# Altium integrated library 74ac-logic.IntLib: 136 symbols (part 2 of 2)
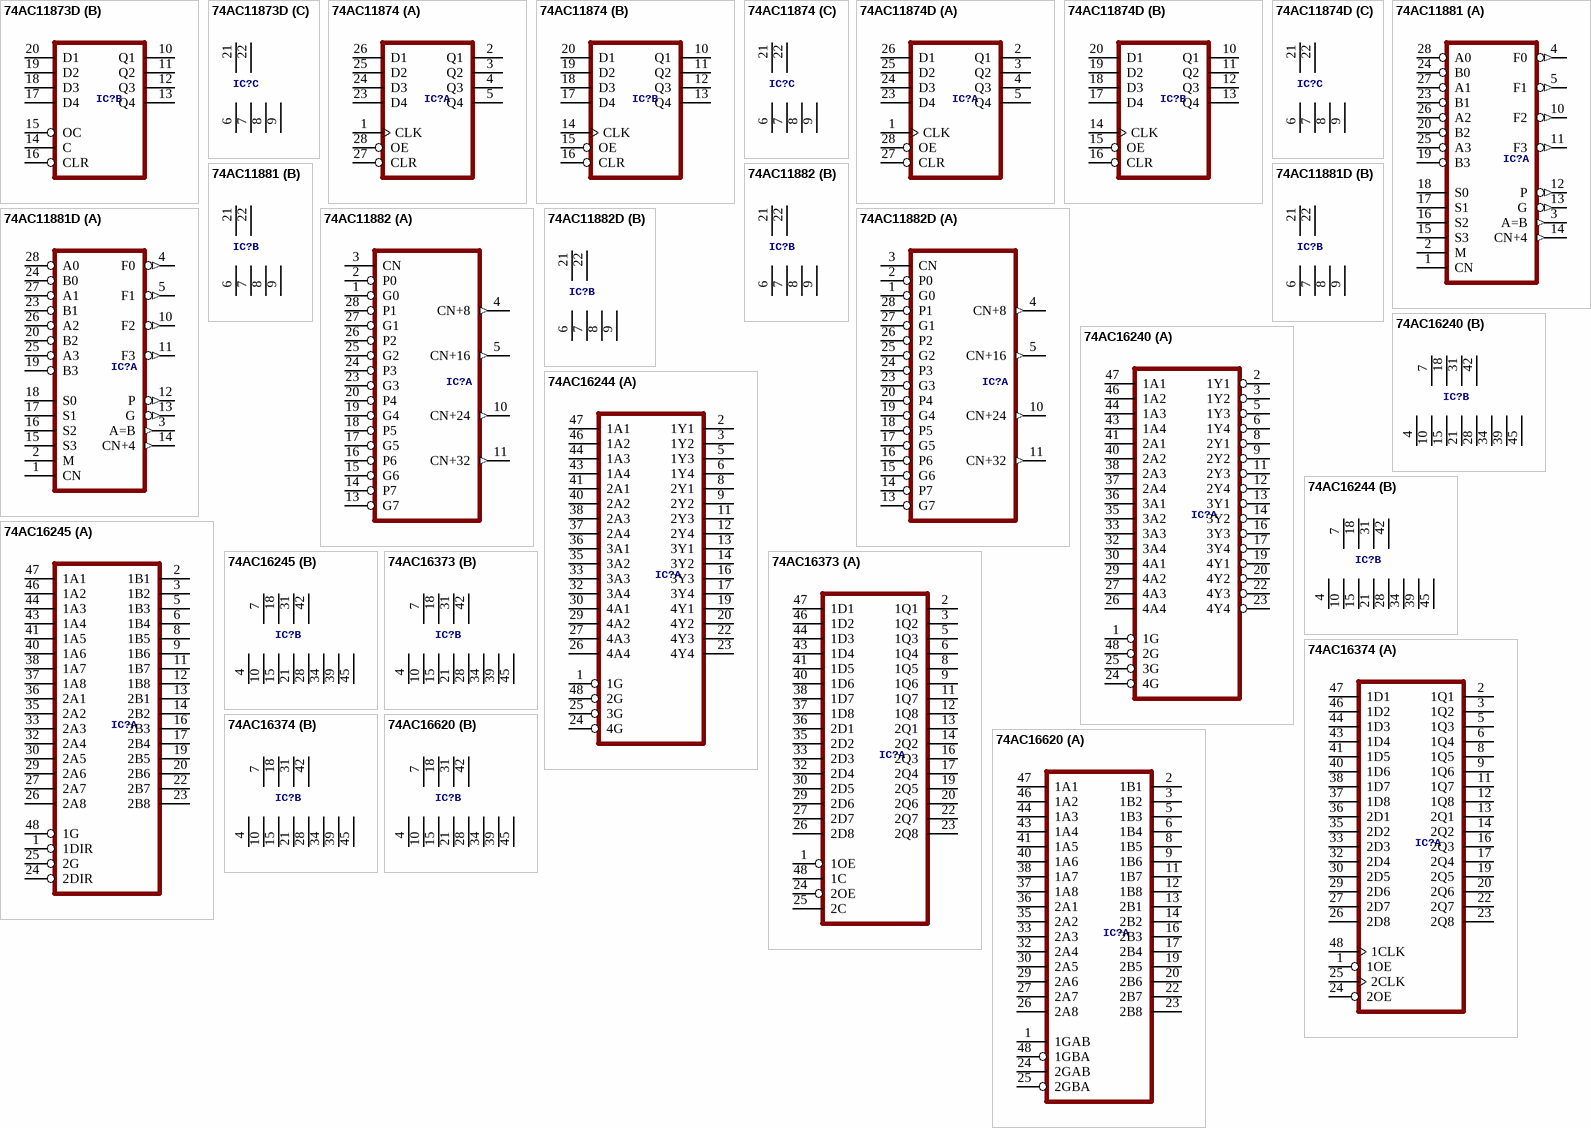
[diagram p9: symbols 74AC11873D to 74AC16620]

## 74AC16620
designator IC?, comment 16-bit BUS TRANSCEIVER, 3-state  (value not drawn)
footprint SSOP48DL
part A pins: 1 1GAB, 2 1B1, 3 1B2, 5 1B3, 6 1B4, 8 1B5, 9 1B6, 11 1B7, 12 1B8, 13 2B1, 14 2B2, 16 2B3, 17 2B4, 19 2B5, 20 2B6, 22 2B7, 23 2B8, 24 2GAB, 25 2GBA, 26 2A8, 27 2A7, 29 2A6, 30 2A5, 32 2A4, 33 2A3, 35 2A2, 36 2A1, 37 1A8, 38 1A7, 40 1A6, 41 1A5, 43 1A4, 44 1A3, 46 1A2, 47 1A1, 48 1GBA
part B pins: 4 GND@1 (power), 7 VCC@1 (power), 10 GND@2 (power), 15 GND@3 (power), 18 VCC@2 (power), 21 GND@4 (power), 28 GND@5 (power), 31 VCC@3 (power), 34 GND@6 (power), 39 GND@7 (power), 42 VCC@4 (power), 45 GND@8 (power)